# EAGLE library part SPI (library VocalVision)
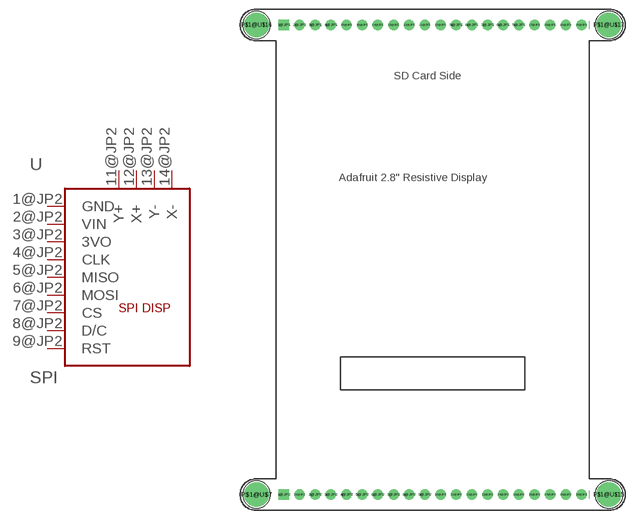
[diagram p3: symbol with the pads of SPI; footprint SPI]

Designator prefix -

## SPI  [SPI]
1@JP2  GND
2@JP2  VIN
3@JP2  3VO
4@JP2  CLK
5@JP2  MISO
6@JP2  MOSI
7@JP2  CS
8@JP2  D/C
9@JP2  RST
11@JP2  Y+
12@JP2  X+
13@JP2  Y-
14@JP2  X-

## Footprint SPI (pad centres in mm)
Package generated by make-group2pac.ulp from: C:/Users/parni/Downloads/PCB/VocalVision/Adafruit 2.8 TFT Breakout v2.brd at: 12/9/2023 3:14 PM
drill 1 pad 1.676 square: 1@JP1 -24.13,38.1; 1@JP2 -24.13,-38.1
drill 1 pad 1.676: 2@JP1 -21.59,38.1; 2@JP2 -19.05,-38.1; 3@JP1 -19.05,38.1; 3@JP2 -16.51,-38.1; 4@JP1 -16.51,38.1; 4@JP2 -13.97,-38.1; 5@JP1 13.97,38.1; 05@JP1 -13.97,38.1; 5@JP2 -11.43,-38.1; 6@JP1 11.43,38.1; 06@JP1 -11.43,38.1; 6@JP2 -8.89,-38.1; 7@JP1 8.89,38.1; 7@JP2 -6.35,-38.1; 8@JP1 6.35,38.1; 8@JP2 -3.81,-38.1; 9@JP1 3.81,38.1; 9@JP2 -1.27,-38.1; 10@JP1 1.27,38.1; 10@JP2 1.27,-38.1; 11@JP1 -1.27,38.1; 11@JP2 3.81,-38.1; 12@JP1 -3.81,38.1; 12@JP2 6.35,-38.1; 13@JP1 -6.35,38.1; 13@JP2 8.89,-38.1; 14@JP1 -8.89,38.1; 14@JP2 11.43,-38.1; 15@JP2 13.97,-38.1; 16@JP2 16.51,-38.1; 17@JP1 16.51,38.1; 17@JP2 19.05,-38.1; 18@JP1 19.05,38.1; 18@JP2 21.59,-38.1; 19@JP1 21.59,38.1; 19@JP2 -21.59,-38.1; 20@JP1 24.13,38.1; 20@JP2 24.13,-38.1
drill 3 pad 3.6: P$1@U$7 -28.575,-38.1; P$1@U$15 28.575,-38.1; P$1@U$16 -28.575,38.1; P$1@U$17 28.575,38.1